# Altium footprint library Tantalum Capacitors.PcbLib: 4 footprints
Each footprint in its own frame and in the unit in brackets; x right, y up, seen from the top. Pads: shape width x height; smd on the part's side, far side on the other; paste and mask are expansions set on the pad; w line width, h text height; cw(c..) or ccw(c..) is an arc to the next point about the centre after c.
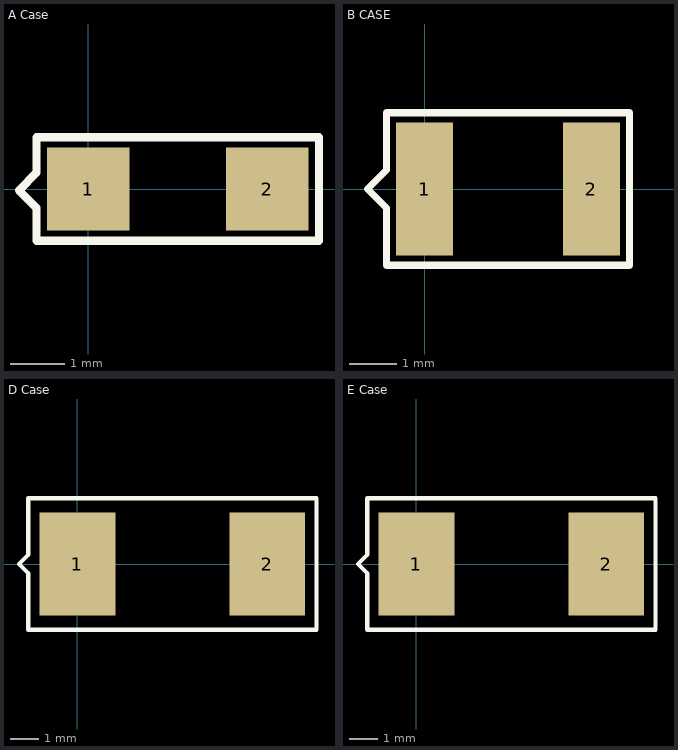
[diagram p0: the footprints below, top view; thin cyan lines are the x and y axes]

## A Case [mil]
pads (2):
  rect 60x60 smd: 1(0,0) 2(130,0)
Top Overlay:
  lines w5.98: -37.5,-37.5 -37.5,-13.68 -50.25,-0.94 -37.5,11.81 -37.5,37.5
  lines w6: -37.5,-37.5 167.5,-37.5 167.5,37.5 -37.5,37.5
3D body: height 67.32, standoff -0.39, extent -0.98,-33.07 132.87,33.08

## B CASE [mm]
pads (2):
  rect 1.2x2.8 smd: 1(0,0) 2(3.5,0)
Top Overlay:
  lines w0.152: -1.2,0 -0.8,0.4 -0.8,1.6 4.3,1.6 4.3,-1.6 -0.8,-1.6 -0.8,-0.4 -1.2,0
3D body: height -0.4, standoff -2.43, extent -0.2,-1.465 3.5,1.465

## D Case [mil]
pads (2):
  rect 104x141.73 smd: 1(0,0) 2(260,0)
Top Overlay:
  lines w6: -80,0 -67.5,-12.5 -67.5,-90 327.5,-90 327.5,90 -67.5,90 -67.5,12.5 -80,0
3D body: height 118.9, standoff 0.79, extent -13.96,-84.64 277.37,90.56

## E Case [mil] "Capacitor"
pads (2):
  rect 104x141.73 smd: 1(0,0) 2(260,0)
Top Overlay:
  lines w6: -80,0 -67.5,12.5 -67.5,90 327.5,90 327.5,-90 -67.5,-90 -67.5,-12.5 -80,0
3D body: height 166.14, standoff 0.79, extent -13.96,-84.64 277.37,90.56